# EAGLE library part LMH6550 (library RalimTek)
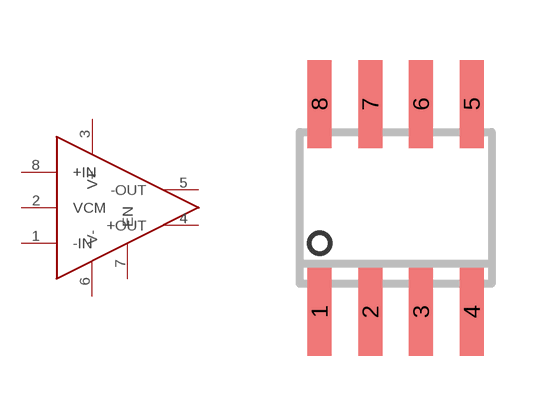
[diagram p30: symbol with the pads of SOIC8; footprint SOIC8]

Designator prefix -

## LMH6550  [SOIC8]
1  -IN
2  VCM
3  V+
4  +OUT
5  -OUT
6  V-
7  EN
8  +IN

## Footprint SOIC8 (pad centres in mm)
Small Outline IC
smd 0.6 x 2.2: 1 -1.905,-2.6; 2 -0.635,-2.6; 3 0.635,-2.6; 4 1.905,-2.6; 5 1.905,2.6; 6 0.635,2.6; 7 -0.635,2.6; 8 -1.905,2.6